# Altium schematic symbol library IC_TI_TPS2546RTER.SchLib: 1 symbol
Pins are listed as number, name and electrical type; pins without a type are passive.

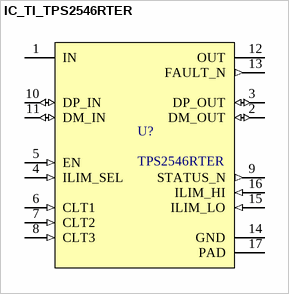
[diagram p0: symbol IC_TI_TPS2546RTER]

## IC_TI_TPS2546RTER
designator U?, comment TPS2546RTER
USB charging port controller with CDP/SDP auto switch and 2.5A power switch with load detection</ 16-WQFN -40 to 125; Manufacturer_Name: Texas Instruments; CompType: IC; TYPE: TYPE; RefDes: RefDes; Copyright: Copyright (C) 2025 Ultra Librarian. All rights reserved.; Manufacturer_Part_Number: TPS2546RTER; PartNumber: TPS2546RTE; PackageReference: RTE0016C; MountType: SMT; RoHS: Y; Manufacturer: Texas Instruments
footprint IC_TPS2546RTER
pins: 1 IN (power), 2 DM_OUT (io), 3 DP_OUT (io), 4 ILIM_SEL (in), 5 EN (in), 6 CLT1 (in), 7 CLT2 (in), 8 CLT3 (in), 9 STATUS_N (out), 10 DP_IN (io), 11 DM_IN (io), 12 OUT (power), 13 FAULT_N (out), 14 GND (power), 15 ILIM_LO (in), 16 ILIM_HI (in), 17 PAD (power)